# EAGLE library part AD8228 (library ekho)
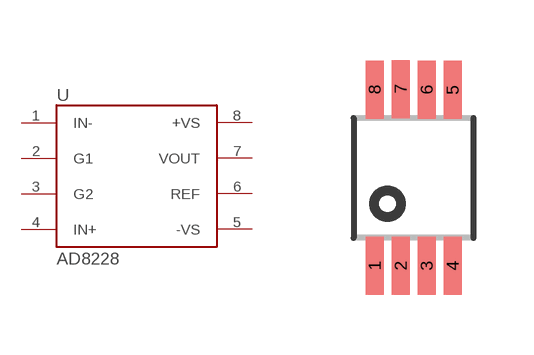
[diagram p9: symbol with the pads of MSOP8; footprint MSOP8]

Designator prefix U

## AD8228  [MSOP8]
1  IN-
2  G1
3  G2
4  IN+
5  -VS
6  REF
7  VOUT
8  +VS

## Footprint MSOP8 (pad centres in mm)
8M, 8-Lead, 0.118" Wide, Miniature Small Outline Package MSOP 8M-Package doc1097.pdf
smd 0.45 x 1.45: 1 -0.975,-2.2; 2 -0.325,-2.2; 3 0.325,-2.2; 4 0.975,-2.2; 5 0.975,2.2; 6 0.325,2.2; 7 -0.325,2.22; 8 -0.975,2.2